# Altium integrated library Coiltronics Passive Transformer.IntLib: 204 symbols (part 4 of 4)
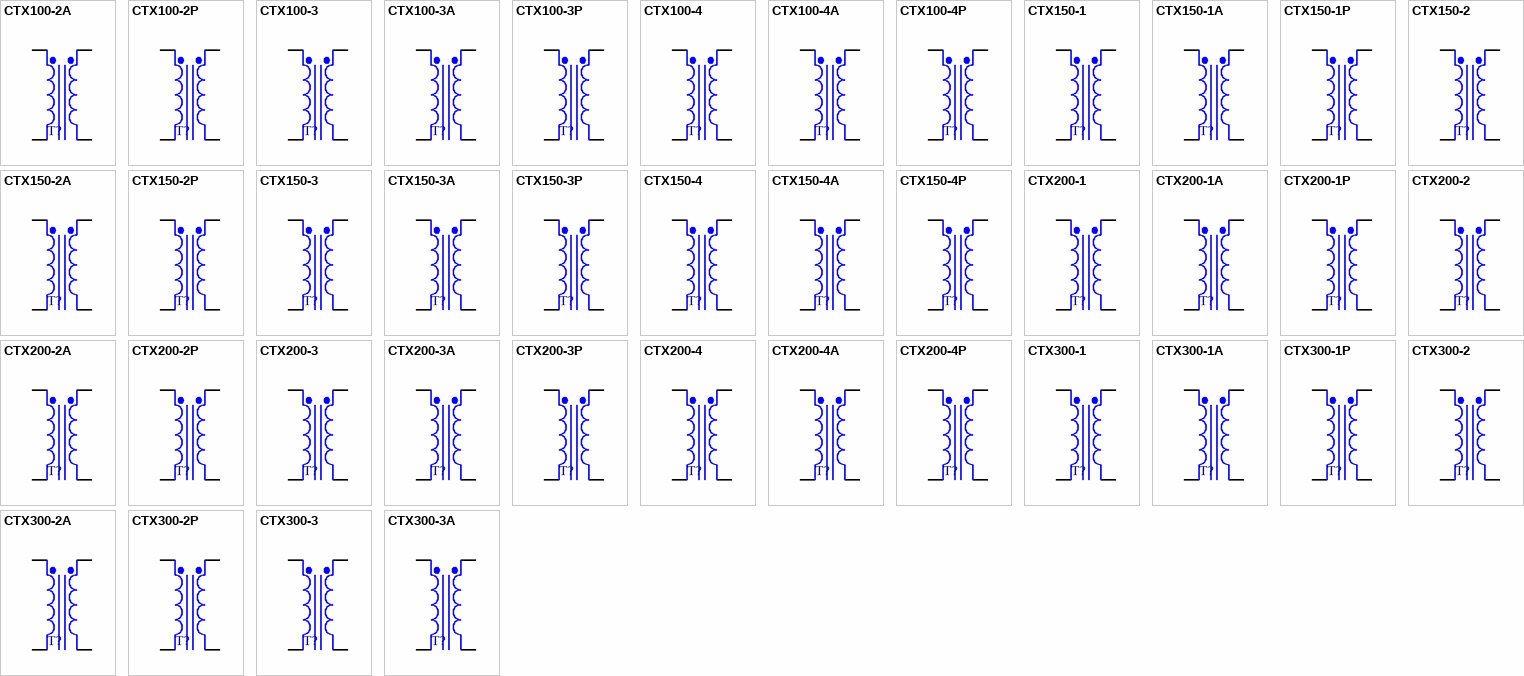
[diagram p8: symbols CTX100-2A to CTX300-3A]

## CTX150-4
designator T?
Surface Mount 1:1 Transformer, 0.41A DC Series Full Load Current, Octa-Pac; Parallel_OCL: 148.23uH ± 20%; Parallel_L(Full_Load): 77.17uH (Minimum); Parallel_I(Full_Load): 0.82A DC; Parallel_DCR: 0.372 Ohms (Maximum); Series_OCL: 592.90uH ± 20%; Series_L(Full_Load): 308.69uH (Minimum); Series_DCR: 1.488 Ohms (Maximum); Published: 17-Jul-2002; DatasheetDocument: Jan-2002; PackageDocument: Dec-2001; PackageReference: OPA4; Publisher: Altium Limited; Series_I(Full_Load): 0.41A DC; ComponentLink1Description: Manufacturer Link; ComponentLink1URL: http://www.cooperet.com/; ComponentLink2Description: Datasheet; ComponentLink2URL: http://www.cooperet.com/pdfs_html/EconoPacOctaPacOctaPacPlus_Specs.pdf
footprint OPA4 (SM Inductor/Transformer; 4 Leads; Body 11.43 x 11.43 x 6.35 mm (LxWxH))
pins: 1 Pri+, 2 Pri-, 3 Sec-, 4 Sec+

## CTX150-4A
designator T?
Surface Mount 1:1 Transformer, 0.55A RMS Series Current, Octa-Pac Plus; Parallel_OCL: 153.50uH ± 25%; Parallel_I(Sat): 1.07A (Peak); Parallel_I(RMS): 1.10A DC; Parallel_DCR: 0.365 Ohms (Typical @ 20°C); Series_OCL: 613.90uH ± 25%; Series_I(Sat): 0.54uH (Minimum); Series_I(RMS): 0.55A DC; Series_DCR: 1.462 Ohms (Typical @ 20°C); Published: 17-Jul-2002; DatasheetDocument: Dec-2001; PackageDocument: Dec-2001; PackageReference: OPA4; Publisher: Altium Limited; ComponentLink1Description: Manufacturer Link; ComponentLink1URL: http://www.cooperet.com/; ComponentLink2Description: Datasheet; ComponentLink2URL: http://www.cooperet.com/pdfs_html/EconoPacOctaPacOctaPacPlus_Specs.pdf
footprint OPA4 (SM Inductor/Transformer; 4 Leads; Body 11.43 x 11.43 x 6.35 mm (LxWxH))
pins: 1 Pri+, 2 Pri-, 3 Sec-, 4 Sec+

## CTX150-4P
designator T?
Surface Mount 1:1 Transformer, 0.32A DC Series Full Load Current, Econo-Pac; Parallel_OCL: 149.45uH ± 20%; Parallel_L(Full_Load): 101.46uH (Minimum); Parallel_I(Full_Load): 0.64A DC; Parallel_DCR: 0.696 Ohms (Maximum); Series_OCL: 597.80uH ± 20%; Series_L(Full_Load): 405.83uH (Minimum); Series_DCR: 2.784 Ohms (Maximum); Published: 17-Jul-2002; DatasheetDocument: Jan-2002; PackageDocument: Dec-2001; PackageReference: OPA4; Publisher: Altium Limited; Series_I(Full_Load): 0.32A DC; ComponentLink1Description: Manufacturer Link; ComponentLink1URL: http://www.cooperet.com/; ComponentLink2Description: Datasheet; ComponentLink2URL: http://www.cooperet.com/pdfs_html/EconoPacOctaPacOctaPacPlus_Specs.pdf
footprint OPA4 (SM Inductor/Transformer; 4 Leads; Body 11.43 x 11.43 x 6.35 mm (LxWxH))
pins: 1 Pri+, 2 Pri-, 3 Sec-, 4 Sec+

## CTX200-1
designator T?
Surface Mount 1:1 Transformer, 0.19A DC Series Full Load Current, Octa-Pac; Parallel_OCL: 202.50uH ± 20%; Parallel_L(Full_Load): 107.6uH (Minimum); Parallel_I(Full_Load): 0.37A DC; Parallel_DCR: 1.142 Ohms (Maximum); Series_OCL: 810.00uH ± 20%; Series_L(Full_Load): 430.39uH (Minimum); Series_DCR: 4.567 Ohms (Maximum); Published: 17-Jul-2002; DatasheetDocument: Jan-2002; PackageDocument: Dec-2001; PackageReference: OPA1; Publisher: Altium Limited; Series_I(Full_Load): 0.19A DC; ComponentLink1Description: Manufacturer Link; ComponentLink1URL: http://www.cooperet.com/; ComponentLink2Description: Datasheet; ComponentLink2URL: http://www.cooperet.com/pdfs_html/EconoPacOctaPacOctaPacPlus_Specs.pdf
footprint OPA1 (SM Inductor/Transformer; 4 Leads; Body 8.89 x 8.89 x 4.19 mm (LxWxH))
pins: 1 Pri+, 2 Pri-, 3 Sec-, 4 Sec+

## CTX200-1A
designator T?
Surface Mount 1:1 Transformer, 0.31A RMS Series Current, Octa-Pac Plus; Parallel_OCL: 198.60uH ± 25%; Parallel_I(Sat): 0.58A (Peak); Parallel_I(RMS): 0.62A DC; Parallel_DCR: 0.963 Ohms (Typical @ 20°C); Series_OCL: 794.30uH ± 25%; Series_I(Sat): 0.29uH (Minimum); Series_I(RMS): 0.31A DC; Series_DCR: 3.854 Ohms (Typical @ 20°C); Published: 17-Jul-2002; DatasheetDocument: Dec-2001; PackageDocument: Dec-2001; PackageReference: OPA1; Publisher: Altium Limited; ComponentLink1Description: Manufacturer Link; ComponentLink1URL: http://www.cooperet.com/; ComponentLink2Description: Datasheet; ComponentLink2URL: http://www.cooperet.com/pdfs_html/EconoPacOctaPacOctaPacPlus_Specs.pdf
footprint OPA1 (SM Inductor/Transformer; 4 Leads; Body 8.89 x 8.89 x 4.19 mm (LxWxH))
pins: 1 Pri+, 2 Pri-, 3 Sec-, 4 Sec+

## CTX200-1P
designator T?
Surface Mount 1:1 Transformer, 0.18A DC Series Full Load Current, Econo-Pac; Parallel_OCL: 198.41uH ± 20%; Parallel_L(Full_Load): 130.79uH (Minimum); Parallel_I(Full_Load): 0.36A DC; Parallel_DCR: 1.208 Ohms (Maximum); Series_OCL: 793.65uH ± 20%; Series_L(Full_Load): 523.16uH (Minimum); Series_DCR: 4.831 Ohms (Maximum); Published: 17-Jul-2002; DatasheetDocument: Jan-2002; PackageDocument: Dec-2001; PackageReference: OPA1; Publisher: Altium Limited; Series_I(Full_Load): 0.18A DC; ComponentLink1Description: Manufacturer Link; ComponentLink1URL: http://www.cooperet.com/; ComponentLink2Description: Datasheet; ComponentLink2URL: http://www.cooperet.com/pdfs_html/EconoPacOctaPacOctaPacPlus_Specs.pdf
footprint OPA1 (SM Inductor/Transformer; 4 Leads; Body 8.89 x 8.89 x 4.19 mm (LxWxH))
pins: 1 Pri+, 2 Pri-, 3 Sec-, 4 Sec+

## CTX200-2
designator T?
Surface Mount 1:1 Transformer, 0.20A DC Series Full Load Current, Octa-Pac; Parallel_OCL: 198.58uH ± 20%; Parallel_L(Full_Load): 122.94uH (Minimum); Parallel_I(Full_Load): 0.39A DC; Parallel_DCR: 0.796 Ohms (Maximum); Series_OCL: 794.30uH ± 20%; Series_L(Full_Load): 491.76uH (Minimum); Series_I(Full_Load): 0.2A DC; Series_DCR: 3.184 Ohms (Maximum); Published: 17-Jul-2002; DatasheetDocument: Jan-2002; PackageDocument: Dec-2001; PackageReference: OPA2; Publisher: Altium Limited; ComponentLink1Description: Manufacturer Link; ComponentLink1URL: http://www.cooperet.com/; ComponentLink2Description: Datasheet; ComponentLink2URL: http://www.cooperet.com/pdfs_html/EconoPacOctaPacOctaPacPlus_Specs.pdf
footprint OPA2 (SM Inductor/Transformer; 4 Leads; Body 8.89 x 8.89 x 5.97 mm (LxWxH))
pins: 1 Pri+, 2 Pri-, 3 Sec-, 4 Sec+

## CTX200-2A
designator T?
Surface Mount 1:1 Transformer, 0.32A RMS Series Current, Octa-Pac Plus; Parallel_OCL: 197.50uH ± 25%; Parallel_I(Sat): 0.75A (Peak); Parallel_I(RMS): 0.64A DC; Parallel_DCR: 0.950 Ohms (Typical @ 20°C); Series_OCL: 790.00uH ± 25%; Series_I(Sat): 0.38uH (Minimum); Series_I(RMS): 0.32A DC; Series_DCR: 3.800 Ohms (Typical @ 20°C); Published: 17-Jul-2002; DatasheetDocument: Dec-2001; PackageDocument: Dec-2001; PackageReference: OPA2; Publisher: Altium Limited; ComponentLink1Description: Manufacturer Link; ComponentLink1URL: http://www.cooperet.com/; ComponentLink2Description: Datasheet; ComponentLink2URL: http://www.cooperet.com/pdfs_html/EconoPacOctaPacOctaPacPlus_Specs.pdf
footprint OPA2 (SM Inductor/Transformer; 4 Leads; Body 8.89 x 8.89 x 5.97 mm (LxWxH))
pins: 1 Pri+, 2 Pri-, 3 Sec-, 4 Sec+

## CTX200-2P
designator T?
Surface Mount 1:1 Transformer, 0.23A DC Series Full Load Current, Econo-Pac; Parallel_OCL: 201.59uH ± 20%; Parallel_L(Full_Load): 138.49uH (Minimum); Parallel_I(Full_Load): 0.46A DC; Parallel_DCR: 0.951 Ohms (Maximum); Series_OCL: 806.34uH ± 20%; Series_L(Full_Load): 553.97uH (Minimum); Series_DCR: 3.804 Ohms (Maximum); Published: 17-Jul-2002; DatasheetDocument: Jan-2002; PackageDocument: Dec-2001; PackageReference: OPA2; Publisher: Altium Limited; Series_I(Full_Load): 0.23A DC; ComponentLink1Description: Manufacturer Link; ComponentLink1URL: http://www.cooperet.com/; ComponentLink2Description: Datasheet; ComponentLink2URL: http://www.cooperet.com/pdfs_html/EconoPacOctaPacOctaPacPlus_Specs.pdf
footprint OPA2 (SM Inductor/Transformer; 4 Leads; Body 8.89 x 8.89 x 5.97 mm (LxWxH))
pins: 1 Pri+, 2 Pri-, 3 Sec-, 4 Sec+

## CTX200-3
designator T?
Surface Mount 1:1 Transformer, 0.20A DC Series Full Load Current, Octa-Pac; Parallel_OCL: 198.74uH ± 20%; Parallel_L(Full_Load): 119.18uH (Minimum); Parallel_I(Full_Load): 0.39A DC; Parallel_DCR: 0.619 Ohms (Maximum); Series_OCL: 794.98uH ± 20%; Series_L(Full_Load): 476.71uH (Minimum); Series_I(Full_Load): 0.2A DC; Series_DCR: 2.475 Ohms (Maximum); Published: 17-Jul-2002; DatasheetDocument: Jan-2002; PackageDocument: Dec-2001; PackageReference: OPA3; Publisher: Altium Limited; ComponentLink1Description: Manufacturer Link; ComponentLink1URL: http://www.cooperet.com/; ComponentLink2Description: Datasheet; ComponentLink2URL: http://www.cooperet.com/pdfs_html/EconoPacOctaPacOctaPacPlus_Specs.pdf
footprint OPA3 (SM Inductor/Transformer; 4 Leads; Body 11.43 x 11.43 x 4.83 mm (LxWxH))
pins: 1 Pri+, 2 Pri-, 3 Sec-, 4 Sec+

## CTX200-3A
designator T?
Surface Mount 1:1 Transformer, 0.35A RMS Series Current, Octa-Pac Plus; Parallel_OCL: 198.80uH ± 25%; Parallel_I(Sat): 0.66A (Peak); Parallel_I(RMS): 0.71A DC; Parallel_DCR: 0.829 Ohms (Typical @ 20°C); Series_OCL: 795.30uH ± 25%; Series_I(Sat): 0.33uH (Minimum); Series_I(RMS): 0.35A DC; Series_DCR: 3.315 Ohms (Typical @ 20°C); Published: 17-Jul-2002; DatasheetDocument: Dec-2001; PackageDocument: Dec-2001; PackageReference: OPA3; Publisher: Altium Limited; ComponentLink1Description: Manufacturer Link; ComponentLink1URL: http://www.cooperet.com/; ComponentLink2Description: Datasheet; ComponentLink2URL: http://www.cooperet.com/pdfs_html/EconoPacOctaPacOctaPacPlus_Specs.pdf
footprint OPA3 (SM Inductor/Transformer; 4 Leads; Body 11.43 x 11.43 x 4.83 mm (LxWxH))
pins: 1 Pri+, 2 Pri-, 3 Sec-, 4 Sec+

## CTX200-3P
designator T?
Surface Mount 1:1 Transformer, 0.30A DC Series Full Load Current, Econo-Pac; Parallel_OCL: 200.10uH ± 20%; Parallel_L(Full_Load): 116.51uH (Minimum); Parallel_I(Full_Load): 0.60A DC; Parallel_DCR: 0.731 Ohms (Maximum); Series_OCL: 800.38uH ± 20%; Series_L(Full_Load): 466.03uH (Minimum); Series_I(Full_Load): 0.3A DC; Series_DCR: 2.925 Ohms (Maximum); Published: 17-Jul-2002; DatasheetDocument: Jan-2002; PackageDocument: Dec-2001; PackageReference: OPA3; Publisher: Altium Limited; ComponentLink1Description: Manufacturer Link; ComponentLink1URL: http://www.cooperet.com/; ComponentLink2Description: Datasheet; ComponentLink2URL: http://www.cooperet.com/pdfs_html/EconoPacOctaPacOctaPacPlus_Specs.pdf
footprint OPA3 (SM Inductor/Transformer; 4 Leads; Body 11.43 x 11.43 x 4.83 mm (LxWxH))
pins: 1 Pri+, 2 Pri-, 3 Sec-, 4 Sec+

## CTX200-4
designator T?
Surface Mount 1:1 Transformer, 0.32A DC Series Full Load Current, Octa-Pac; Parallel_OCL: 200.70uH ± 20%; Parallel_L(Full_Load): 111.08uH (Minimum); Parallel_I(Full_Load): 0.64A DC; Parallel_DCR: 0.545 Ohms (Maximum); Series_OCL: 802.82uH ± 20%; Series_L(Full_Load): 444.32uH (Minimum); Series_DCR: 2.18 Ohms (Maximum); Published: 17-Jul-2002; DatasheetDocument: Jan-2002; PackageDocument: Dec-2001; PackageReference: OPA4; Publisher: Altium Limited; Series_I(Full_Load): 0.32A DC; ComponentLink1Description: Manufacturer Link; ComponentLink1URL: http://www.cooperet.com/; ComponentLink2Description: Datasheet; ComponentLink2URL: http://www.cooperet.com/pdfs_html/EconoPacOctaPacOctaPacPlus_Specs.pdf
footprint OPA4 (SM Inductor/Transformer; 4 Leads; Body 11.43 x 11.43 x 6.35 mm (LxWxH))
pins: 1 Pri+, 2 Pri-, 3 Sec-, 4 Sec+

## CTX200-4A
designator T?
Surface Mount 1:1 Transformer, 0.46A RMS Series Current, Octa-Pac Plus; Parallel_OCL: 200.40uH ± 25%; Parallel_I(Sat): 0.94A (Peak); Parallel_I(RMS): 0.92A DC; Parallel_DCR: 0.521 Ohms (Typical @ 20°C); Series_OCL: 801.80uH ± 25%; Series_I(Sat): 0.47uH (Minimum); Series_I(RMS): 0.46A DC; Series_DCR: 2.085 Ohms (Typical @ 20°C); Published: 17-Jul-2002; DatasheetDocument: Dec-2001; PackageDocument: Dec-2001; PackageReference: OPA4; Publisher: Altium Limited; ComponentLink1Description: Manufacturer Link; ComponentLink1URL: http://www.cooperet.com/; ComponentLink2Description: Datasheet; ComponentLink2URL: http://www.cooperet.com/pdfs_html/EconoPacOctaPacOctaPacPlus_Specs.pdf
footprint OPA4 (SM Inductor/Transformer; 4 Leads; Body 11.43 x 11.43 x 6.35 mm (LxWxH))
pins: 1 Pri+, 2 Pri-, 3 Sec-, 4 Sec+

## CTX200-4P
designator T?
Surface Mount 1:1 Transformer, 0.30A DC Series Full Load Current, Econo-Pac; Parallel_OCL: 200.11uH ± 20%; Parallel_L(Full_Load): 131.37uH (Minimum); Parallel_I(Full_Load): 0.60A DC; Parallel_DCR: 0.81 Ohms (Maximum); Series_OCL: 800.44uH ± 20%; Series_L(Full_Load): 525.47uH (Minimum); Series_I(Full_Load): 0.3A DC; Series_DCR: 3.24 Ohms (Maximum); Published: 17-Jul-2002; DatasheetDocument: Jan-2002; PackageDocument: Dec-2001; PackageReference: OPA4; Publisher: Altium Limited; ComponentLink1Description: Manufacturer Link; ComponentLink1URL: http://www.cooperet.com/; ComponentLink2Description: Datasheet; ComponentLink2URL: http://www.cooperet.com/pdfs_html/EconoPacOctaPacOctaPacPlus_Specs.pdf
footprint OPA4 (SM Inductor/Transformer; 4 Leads; Body 11.43 x 11.43 x 6.35 mm (LxWxH))
pins: 1 Pri+, 2 Pri-, 3 Sec-, 4 Sec+

## CTX300-1
designator T?
Surface Mount 1:1 Transformer, 0.11A DC Series Full Load Current, Octa-Pac; Parallel_OCL: 302.50uH ± 20%; Parallel_L(Full_Load): 191.38uH (Minimum); Parallel_I(Full_Load): 0.22A DC; Parallel_DCR: 1.431 Ohms (Maximum); Series_OCL: 1210.00uH ± 20%; Series_L(Full_Load): 765.54uH (Minimum); Series_DCR: 5.724 Ohms (Maximum); Published: 17-Jul-2002; DatasheetDocument: Jan-2002; PackageDocument: Dec-2001; PackageReference: OPA1; Publisher: Altium Limited; Series_I(Full_Load): 0.11A DC; ComponentLink1Description: Manufacturer Link; ComponentLink1URL: http://www.cooperet.com/; ComponentLink2Description: Datasheet; ComponentLink2URL: http://www.cooperet.com/pdfs_html/EconoPacOctaPacOctaPacPlus_Specs.pdf
footprint OPA1 (SM Inductor/Transformer; 4 Leads; Body 8.89 x 8.89 x 4.19 mm (LxWxH))
pins: 1 Pri+, 2 Pri-, 3 Sec-, 4 Sec+

## CTX300-1A
designator T?
Surface Mount 1:1 Transformer, 0.28A RMS Series Current, Octa-Pac Plus; Parallel_OCL: 300.80uH ± 25%; Parallel_I(Sat): 0.47A (Peak); Parallel_I(RMS): 0.56A DC; Parallel_DCR: 1.181 Ohms (Typical @ 20°C); Series_OCL: 1203.00uH ± 25%; Series_I(Sat): 0.23uH (Minimum); Series_I(RMS): 0.28A DC; Series_DCR: 4.726 Ohms (Typical @ 20°C); Published: 17-Jul-2002; DatasheetDocument: Dec-2001; PackageDocument: Dec-2001; PackageReference: OPA1; Publisher: Altium Limited; ComponentLink1Description: Manufacturer Link; ComponentLink1URL: http://www.cooperet.com/; ComponentLink2Description: Datasheet; ComponentLink2URL: http://www.cooperet.com/pdfs_html/EconoPacOctaPacOctaPacPlus_Specs.pdf
footprint OPA1 (SM Inductor/Transformer; 4 Leads; Body 8.89 x 8.89 x 4.19 mm (LxWxH))
pins: 1 Pri+, 2 Pri-, 3 Sec-, 4 Sec+

## CTX300-1P
designator T?
Surface Mount 1:1 Transformer, 0.16A DC Series Full Load Current, Econo-Pac; Parallel_OCL: 299.87uH ± 20%; Parallel_L(Full_Load): 190.05uH (Minimum); Parallel_I(Full_Load): 0.32A DC; Parallel_DCR: 1.525 Ohms (Maximum); Series_OCL: 1199.46uH ± 20%; Series_L(Full_Load): 760.19uH (Minimum); Series_DCR: 6.1 Ohms (Maximum); Published: 17-Jul-2002; DatasheetDocument: Jan-2002; PackageDocument: Dec-2001; PackageReference: OPA1; Publisher: Altium Limited; Series_I(Full_Load): 0.16A DC; ComponentLink1Description: Manufacturer Link; ComponentLink1URL: http://www.cooperet.com/; ComponentLink2Description: Datasheet; ComponentLink2URL: http://www.cooperet.com/pdfs_html/EconoPacOctaPacOctaPacPlus_Specs.pdf
footprint OPA1 (SM Inductor/Transformer; 4 Leads; Body 8.89 x 8.89 x 4.19 mm (LxWxH))
pins: 1 Pri+, 2 Pri-, 3 Sec-, 4 Sec+

## CTX300-2
designator T?
Surface Mount 1:1 Transformer, 0.19A DC Series Full Load Current, Octa-Pac; Parallel_OCL: 300.80uH ± 20%; Parallel_L(Full_Load): 169.06uH (Minimum); Parallel_I(Full_Load): 0.38A DC; Parallel_DCR: 1.231 Ohms (Maximum); Series_OCL: 1203.20uH ± 20%; Series_L(Full_Load): 676.24uH (Minimum); Series_DCR: 4.929 Ohms (Maximum); Published: 17-Jul-2002; DatasheetDocument: Jan-2002; PackageDocument: Dec-2001; PackageReference: OPA2; Publisher: Altium Limited; Series_I(Full_Load): 0.19A DC; ComponentLink1Description: Manufacturer Link; ComponentLink1URL: http://www.cooperet.com/; ComponentLink2Description: Datasheet; ComponentLink2URL: http://www.cooperet.com/pdfs_html/EconoPacOctaPacOctaPacPlus_Specs.pdf
footprint OPA2 (SM Inductor/Transformer; 4 Leads; Body 8.89 x 8.89 x 5.97 mm (LxWxH))
pins: 1 Pri+, 2 Pri-, 3 Sec-, 4 Sec+

## CTX300-2A
designator T?
Surface Mount 1:1 Transformer, 0.29A RMS Series Current, Octa-Pac Plus; Parallel_OCL: 303.70uH ± 25%; Parallel_I(Sat): 0.60A (Peak); Parallel_I(RMS): 0.58A DC; Parallel_DCR: 1.174 Ohms (Typical @ 20°C); Series_OCL: 1215.00uH ± 25%; Series_I(Sat): 0.30uH (Minimum); Series_I(RMS): 0.29A DC; Series_DCR: 4.697 Ohms (Typical @ 20°C); Published: 17-Jul-2002; DatasheetDocument: Dec-2001; PackageDocument: Dec-2001; PackageReference: OPA2; Publisher: Altium Limited; ComponentLink1Description: Manufacturer Link; ComponentLink1URL: http://www.cooperet.com/; ComponentLink2Description: Datasheet; ComponentLink2URL: http://www.cooperet.com/pdfs_html/EconoPacOctaPacOctaPacPlus_Specs.pdf
footprint OPA2 (SM Inductor/Transformer; 4 Leads; Body 8.89 x 8.89 x 5.97 mm (LxWxH))
pins: 1 Pri+, 2 Pri-, 3 Sec-, 4 Sec+

## CTX300-2P
designator T?
Surface Mount 1:1 Transformer, 0.21A DC Series Full Load Current, Econo-Pac; Parallel_OCL: 300.42uH ± 20%; Parallel_L(Full_Load): 197.52uH (Minimum); Parallel_I(Full_Load): 0.42A DC; Parallel_DCR: 1.176 Ohms (Maximum); Series_OCL: 1201.70uH ± 20%; Series_L(Full_Load): 790.08uH (Minimum); Series_DCR: 4.703 Ohms (Maximum); Published: 17-Jul-2002; DatasheetDocument: Jan-2002; PackageDocument: Dec-2001; PackageReference: OPA2; Publisher: Altium Limited; Series_I(Full_Load): 0.21A DC; ComponentLink1Description: Manufacturer Link; ComponentLink1URL: http://www.cooperet.com/; ComponentLink2Description: Datasheet; ComponentLink2URL: http://www.cooperet.com/pdfs_html/EconoPacOctaPacOctaPacPlus_Specs.pdf
footprint OPA2 (SM Inductor/Transformer; 4 Leads; Body 8.89 x 8.89 x 5.97 mm (LxWxH))
pins: 1 Pri+, 2 Pri-, 3 Sec-, 4 Sec+

## CTX300-3
designator T?
Surface Mount 1:1 Transformer, 0.20A DC Series Full Load Current, Octa-Pac; Parallel_OCL: 301.06uH ± 20%; Parallel_L(Full_Load): 157.44uH (Minimum); Parallel_I(Full_Load): 0.40A DC; Parallel_DCR: 0.951 Ohms (Maximum); Series_OCL: 1204.22uH ± 20%; Series_L(Full_Load): 629.75uH (Minimum); Series_I(Full_Load): 0.2A DC; Series_DCR: 3.083 Ohms (Maximum); Published: 17-Jul-2002; DatasheetDocument: Jan-2002; PackageDocument: Dec-2001; PackageReference: OPA3; Publisher: Altium Limited; ComponentLink1Description: Manufacturer Link; ComponentLink1URL: http://www.cooperet.com/; ComponentLink2Description: Datasheet; ComponentLink2URL: http://www.cooperet.com/pdfs_html/EconoPacOctaPacOctaPacPlus_Specs.pdf
footprint OPA3 (SM Inductor/Transformer; 4 Leads; Body 11.43 x 11.43 x 4.83 mm (LxWxH))
pins: 1 Pri+, 2 Pri-, 3 Sec-, 4 Sec+

## CTX300-3A
designator T?
Surface Mount 1:1 Transformer, 0.28A RMS Series Current, Octa-Pac Plus; Parallel_OCL: 296.20uH ± 25%; Parallel_I(Sat): 0.54A (Peak); Parallel_I(RMS): 0.56A DC; Parallel_DCR: 1.309 Ohms (Typical @ 20°C); Series_OCL: 1185uH ± 25%; Series_I(Sat): 0.27uH (Minimum); Series_I(RMS): 0.28A DC; Series_DCR: 5.236 Ohms (Typical @ 20°C); Published: 17-Jul-2002; DatasheetDocument: Dec-2001; PackageDocument: Dec-2001; PackageReference: OPA3; Publisher: Altium Limited; ComponentLink1Description: Manufacturer Link; ComponentLink1URL: http://www.cooperet.com/; ComponentLink2Description: Datasheet; ComponentLink2URL: http://www.cooperet.com/pdfs_html/EconoPacOctaPacOctaPacPlus_Specs.pdf
footprint OPA3 (SM Inductor/Transformer; 4 Leads; Body 11.43 x 11.43 x 4.83 mm (LxWxH))
pins: 1 Pri+, 2 Pri-, 3 Sec-, 4 Sec+

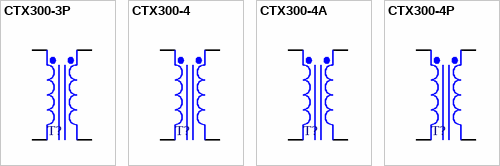
[diagram p5: symbols CTX300-3P to CTX300-4P]

## CTX300-3P
designator T?
Surface Mount 1:1 Transformer, 0.25A DC Series Full Load Current, Econo-Pac; Parallel_OCL: 298.39uH ± 20%; Parallel_L(Full_Load): 172.12uH (Minimum); Parallel_I(Full_Load): 0.50A DC; Parallel_DCR: 0.926 Ohms (Maximum); Series_OCL: 1193.55uH ± 20%; Series_L(Full_Load): 688.5uH (Minimum); Series_DCR: 3.702 Ohms (Maximum); Published: 17-Jul-2002; DatasheetDocument: Jan-2002; PackageDocument: Dec-2001; PackageReference: OPA3; Publisher: Altium Limited; Series_I(Full_Load): 0.25A DC; ComponentLink1Description: Manufacturer Link; ComponentLink1URL: http://www.cooperet.com/; ComponentLink2Description: Datasheet; ComponentLink2URL: http://www.cooperet.com/pdfs_html/EconoPacOctaPacOctaPacPlus_Specs.pdf
footprint OPA3 (SM Inductor/Transformer; 4 Leads; Body 11.43 x 11.43 x 4.83 mm (LxWxH))
pins: 1 Pri+, 2 Pri-, 3 Sec-, 4 Sec+

## CTX300-4
designator T?
Surface Mount 1:1 Transformer, 0.31A DC Series Full Load Current, Octa-Pac; Parallel_OCL: 298.12uH ± 20%; Parallel_L(Full_Load): 147.92uH (Minimum); Parallel_I(Full_Load): 0.62A DC; Parallel_DCR: 0.672 Ohms (Maximum); Series_OCL: 1192.46uH ± 20%; Series_L(Full_Load): 591.66uH (Minimum); Series_DCR: 2.687 Ohms (Maximum); Published: 17-Jul-2002; DatasheetDocument: Jan-2002; PackageDocument: Dec-2001; PackageReference: OPA4; Publisher: Altium Limited; Series_I(Full_Load): 0.31A DC; ComponentLink1Description: Manufacturer Link; ComponentLink1URL: http://www.cooperet.com/; ComponentLink2Description: Datasheet; ComponentLink2URL: http://www.cooperet.com/pdfs_html/EconoPacOctaPacOctaPacPlus_Specs.pdf
footprint OPA4 (SM Inductor/Transformer; 4 Leads; Body 11.43 x 11.43 x 6.35 mm (LxWxH))
pins: 1 Pri+, 2 Pri-, 3 Sec-, 4 Sec+

## CTX300-4A
designator T?
Surface Mount 1:1 Transformer, 0.37A RMS Series Current, Octa-Pac Plus; Parallel_OCL: 302.80uH ± 25%; Parallel_I(Sat): 0.76A (Peak); Parallel_I(RMS): 0.75A DC; Parallel_DCR: 0.787 Ohms (Typical @ 20°C); Series_OCL: 1211uH ± 25%; Series_I(Sat): 0.38uH (Minimum); Series_I(RMS): 0.37A DC; Series_DCR: 3.148 Ohms (Typical @ 20°C); Published: 17-Jul-2002; DatasheetDocument: Dec-2001; PackageDocument: Dec-2001; PackageReference: OPA4; Publisher: Altium Limited; ComponentLink1Description: Manufacturer Link; ComponentLink1URL: http://www.cooperet.com/; ComponentLink2Description: Datasheet; ComponentLink2URL: http://www.cooperet.com/pdfs_html/EconoPacOctaPacOctaPacPlus_Specs.pdf
footprint OPA4 (SM Inductor/Transformer; 4 Leads; Body 11.43 x 11.43 x 6.35 mm (LxWxH))
pins: 1 Pri+, 2 Pri-, 3 Sec-, 4 Sec+

## CTX300-4P
designator T?
Surface Mount 1:1 Transformer, 0.27A DC Series Full Load Current, Econo-Pac; Parallel_OCL: 298.93uH ± 20%; Parallel_L(Full_Load): 188.03uH (Minimum); Parallel_I(Full_Load): 0.54A DC; Parallel_DCR: 1.003 Ohms (Maximum); Series_OCL: 1195.72uH ± 20%; Series_L(Full_Load): 752.13uH (Minimum); Series_DCR: 4.011 Ohms (Maximum); Published: 17-Jul-2002; DatasheetDocument: Jan-2002; PackageDocument: Dec-2001; PackageReference: OPA4; Publisher: Altium Limited; Series_I(Full_Load): 0.27A DC; ComponentLink1Description: Manufacturer Link; ComponentLink1URL: http://www.cooperet.com/; ComponentLink2Description: Datasheet; ComponentLink2URL: http://www.cooperet.com/pdfs_html/EconoPacOctaPacOctaPacPlus_Specs.pdf
footprint OPA4 (SM Inductor/Transformer; 4 Leads; Body 11.43 x 11.43 x 6.35 mm (LxWxH))
pins: 1 Pri+, 2 Pri-, 3 Sec-, 4 Sec+